# Altium schematic symbol library SN74LVC1G3157 Analog Mux.SchLib: 1 symbol
Pins are listed as number, name and electrical type; pins without a type are passive.

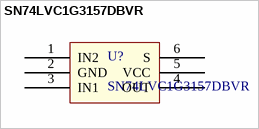
[diagram p0: symbol SN74LVC1G3157DBVR]

## SN74LVC1G3157DBVR
designator U?
1 Circuit IC Switch 2:1 15 Ohm SOT-23-6; Manufacturer: TI; Digikey Part #: 296-14908-1-ND; Manufacturer Part #: SN74LVC1G3157DBVR
footprint SOT95P280X145-6N (SOT23, 6-Leads, Body 2.90x2.80mm, Pitch 0.95mm, IPC Medium Density)
pins: 1 IN2, 2 GND, 3 IN1, 4 OUT, 5 VCC, 6 S